# Altium integrated library Holtek Semiconductor PIR Controller.IntLib: 4 symbols
Pins are listed as number, name and electrical type; pins without a type are passive.

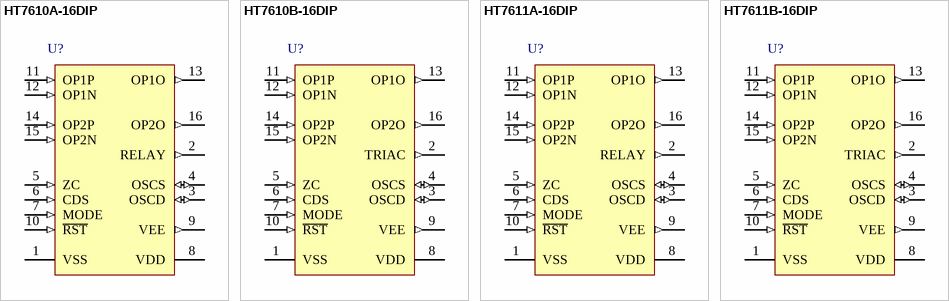
[diagram p0: symbols HT7610A-16DIP to HT7611B-16DIP]

## HT7610A-16DIP
designator U?
General Purpose PIR Controller, Relay Version, 16-Pin DIP; DatasheetVersion: Rev1.30, Oct-2009; PackageVersion: 25/05/2010; PackageReference: 16DIP; PackageDescription: 16-Pin, Dual In-line Package, 300mil Width, Pitch 2.54 mm, Full Lead; Code_JEDEC: MS-001D; ComponentLink1Description: Manufacturer URL; ComponentLink1URL: http://www.holtek.com/; ComponentLink2Description: Datasheet; ComponentLink2URL: http://www.holtek.com/pdf/consumer/761xv130.pdf; ComponentLink3Description: Package Specification; ComponentLink3URL: http://www.holtek.com/english/literature/package.pdf
footprint 16DIP (DIP, 16-Leads, Row Spacing 7.62mm, Pitch 2.54mm, Body 21.1x6.6mm)
pins: 1 VSS (power), 2 RELAY (out), 3 OSCD (io), 4 OSCS (io), 5 ZC  (in), 6 CDS (in), 7 MODE (in), 8 VDD (power), 9 VEE (out), 10 ~{RST} (in), 11 OP1P (in), 12 OP1N (in), 13 OP1O (out), 14 OP2P (in), 15 OP2N (in), 16 OP2O (out)

## HT7610B-16DIP
designator U?
General Purpose PIR Controller, Traic Version, 16-Pin DIP; DatasheetVersion: Rev1.30, Oct-2009; PackageVersion: 25/05/2010; PackageReference: 16DIP; PackageDescription: 16-Pin, Dual In-line Package, 300mil Width, Pitch 2.54 mm, Full Lead; Code_JEDEC: MS-001D; ComponentLink1Description: Manufacturer URL; ComponentLink1URL: http://www.holtek.com/; ComponentLink2Description: Datasheet; ComponentLink2URL: http://www.holtek.com/pdf/consumer/761xv130.pdf; ComponentLink3Description: Package Specification; ComponentLink3URL: http://www.holtek.com/english/literature/package.pdf
footprint 16DIP (DIP, 16-Leads, Row Spacing 7.62mm, Pitch 2.54mm, Body 21.1x6.6mm)
pins: 1 VSS (power), 2 TRIAC (out), 3 OSCD (io), 4 OSCS (io), 5 ZC  (in), 6 CDS (in), 7 MODE (in), 8 VDD (power), 9 VEE (out), 10 ~{RST} (in), 11 OP1P (in), 12 OP1N (in), 13 OP1O (out), 14 OP2P (in), 15 OP2N (in), 16 OP2O (out)

## HT7611A-16DIP
designator U?
General Purpose PIR Controller, Relay Version, 16-Pin DIP; DatasheetVersion: Rev1.30, Oct-2009; PackageVersion: 25/05/2010; PackageReference: 16DIP; PackageDescription: 16-Pin, Dual In-line Package, 300mil Width, Pitch 2.54 mm, Full Lead; Code_JEDEC: MS-001D; ComponentLink1Description: Manufacturer URL; ComponentLink1URL: http://www.holtek.com/; ComponentLink2Description: Datasheet; ComponentLink2URL: http://www.holtek.com/pdf/consumer/761xv130.pdf; ComponentLink3Description: Package Specification; ComponentLink3URL: http://www.holtek.com/english/literature/package.pdf
footprint 16DIP (DIP, 16-Leads, Row Spacing 7.62mm, Pitch 2.54mm, Body 21.1x6.6mm)
pins: 1 VSS (power), 2 RELAY (out), 3 OSCD (io), 4 OSCS (io), 5 ZC  (in), 6 CDS (in), 7 MODE (in), 8 VDD (power), 9 VEE (out), 10 ~{RST} (in), 11 OP1P (in), 12 OP1N (in), 13 OP1O (out), 14 OP2P (in), 15 OP2N (in), 16 OP2O (out)

## HT7611B-16DIP
designator U?
General Purpose PIR Controller, Traic Version, 16-Pin DIP; DatasheetVersion: Rev1.30, Oct-2009; PackageVersion: 25/05/2010; PackageReference: 16DIP; PackageDescription: 16-Pin, Dual In-line Package, 300mil Width, Pitch 2.54 mm, Full Lead; Code_JEDEC: MS-001D; ComponentLink1Description: Manufacturer URL; ComponentLink1URL: http://www.holtek.com/; ComponentLink2Description: Datasheet; ComponentLink2URL: http://www.holtek.com/pdf/consumer/761xv130.pdf; ComponentLink3Description: Package Specification; ComponentLink3URL: http://www.holtek.com/english/literature/package.pdf
footprint 16DIP (DIP, 16-Leads, Row Spacing 7.62mm, Pitch 2.54mm, Body 21.1x6.6mm)
pins: 1 VSS (power), 2 TRIAC (out), 3 OSCD (io), 4 OSCS (io), 5 ZC  (in), 6 CDS (in), 7 MODE (in), 8 VDD (power), 9 VEE (out), 10 ~{RST} (in), 11 OP1P (in), 12 OP1N (in), 13 OP1O (out), 14 OP2P (in), 15 OP2N (in), 16 OP2O (out)